# Altium footprint library ad-packages.PcbLib: 4 footprints
Each footprint in its own frame and in the unit in brackets; x right, y up, seen from the top. Pads: shape width x height; smd on the part's side, far side on the other; paste and mask are expansions set on the pad; w line width, h text height; cw(c..) or ccw(c..) is an arc to the next point about the centre after c.
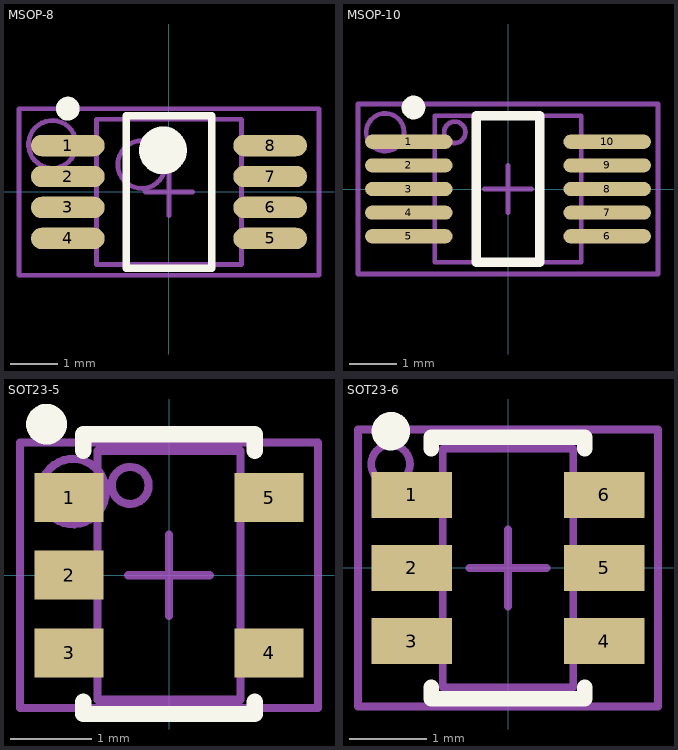
[diagram p0: the footprints below, top view; thin cyan lines are the x and y axes]

## MSOP-8 [mm] "8-MSOP"
height 1.07
pads (8):
  oval 1.55x0.45 smd: 1(-2.125,0.975) 2(-2.125,0.325) 3(-2.125,-0.325) 4(-2.125,-0.975) 5(2.125,-0.975) 6(2.125,-0.325) 7(2.125,0.325) 8(2.125,0.975)
Top Overlay:
  circle w0.25: c-2.125,1.75 r0.125
  circle w0.6: c-0.127,0.875 r0.202
  lines w0.16: -0.9,-1.6 -0.9,1.6 0.9,1.6 0.9,-1.6 -0.9,-1.6
Mechanical 13:
  circle w0.1: c-0.575,0.575 r0.5
  lines w0.1: -1.525,-1.525 -1.525,1.525 1.525,1.525 1.525,-1.525 -1.525,-1.525
  text ".Designator" at 0.6,-1.35 h0.5
Mechanical 15:
  circle w0.1: c-2.45,1 r0.5
  lines w0.1: -0.5,0 0.5,0 ; 0,-0.5 0,0.5 ; -3.15,-1.75 -3.15,1.75 3.15,1.75 3.15,-1.75 -3.15,-1.75
3D body: height 1.05, standoff -0.05, extent -2.469,-1.55 2.469,1.55

## MSOP-10 [mm] "TSSOP, 10-Leads, Body 3.1x3.1mm (max), Pitch 0.50mm, IPC Medium Density"
height 1.1
pads (10):
  oval 1.85x0.3 smd: 1(-2.1,1) 2(-2.1,0.5) 3(-2.1,0) 4(-2.1,-0.5) 5(-2.1,-1) 6(2.1,-1) 7(2.1,-0.5) 8(2.1,0) 9(2.1,0.5) 10(2.1,1)
Top Overlay:
  circle w0.25: c-2,1.725 r0.125
  lines w0.2: -0.675,-1.55 0.675,-1.55 0.675,1.55 -0.675,1.55 -0.675,-1.55
Mechanical 13:
  circle w0.1: c-1.126,1.2 r0.226
  lines w0.1: -0.5,0 0.5,0 ; 0,-0.5 0,0.5 ; -1.55,-1.55 1.55,-1.55 1.55,1.55 -1.55,1.55 -1.55,-1.55
Mechanical 15:
  circle w0.1: c-2.6,1.2 r0.4
  lines w0.1: -3.175,-1.8 3.175,-1.8 3.175,1.8 -3.175,1.8 -3.175,-1.8
  text ".Designator" at 0.225,-1.3 h0.5
3D body: height 0.94, standoff -0.02, extent -2.451,-1.499 2.451,1.498

## SOT23-5 [mm] "SOT23, 5-Leads, Body 3.0x3.0mm (max), Pitch 0.95mm, IPC High Density"
height 1.45
pads (5):
  rect 0.85x0.6 smd: 1(-1.225,0.95) 2(-1.225,0) 3(-1.225,-0.95) 4(1.225,-0.95) 5(1.225,0.95)
Top Overlay:
  circle w0.25: c-1.5,1.85 r0.125
  lines w0.2: -1.05,-1.55 -1.05,-1.7 1.05,-1.7 1.05,-1.55 ; -1.05,1.525 -1.05,1.725 1.05,1.725 1.05,1.525
Mechanical 13:
  circle w0.1: c-0.476,1.1 r0.226
  lines w0.1: -0.5,0 0.5,0 ; 0,-0.5 0,0.5 ; -0.875,-1.525 -0.875,1.525 0.875,1.525 0.875,-1.525 -0.875,-1.525
Mechanical 15:
  circle w0.1: c-1.175,1.025 r0.4
  lines w0.1: -1.825,-1.625 -1.825,1.625 1.825,1.625 1.825,-1.625 -1.825,-1.625
  text ".Designator" at 0.225,-1.3 h0.5
3D body: height 1.09, standoff -0.01, extent -1.25,-1.5 1.25,1.5

## SOT23-6 [mm] "6-Lead Plastic Small Outline Transistor - Medium Density"
height 1.45
pads (6):
  rect 1.05x0.6 smd: 1(-1.25,0.95) 2(-1.25,0) 3(-1.25,-0.95) 4(1.25,-0.95) 5(1.25,0) 6(1.25,0.95)
Top Overlay:
  circle w0.25: c-1.522,1.778 r0.125
  lines w0.2: -1,-1.55 -1,-1.7 1,-1.7 1,-1.55 ; -1,1.55 -1,1.7 1,1.7 1,1.55
Mechanical 13:
  lines w0.1: -0.5,0 0.5,0 ; 0,-0.5 0,0.5 ; -0.85,-1.55 0.85,-1.55 0.85,1.55 -0.85,1.55 -0.85,-1.55
Mechanical 15:
  circle w0.1: c-1.526,1.35 r0.251
  lines w0.1: -1.95,-1.8 1.95,-1.8 1.95,1.8 -1.95,1.8 -1.95,-1.8
  text ".Designator" at -0.2,1.275 h0.5
3D body: height 1, standoff 0, extent -1.17,-1.46 1.17,1.46